# EAGLE library part BOB-00544 (library LearningByMaking)
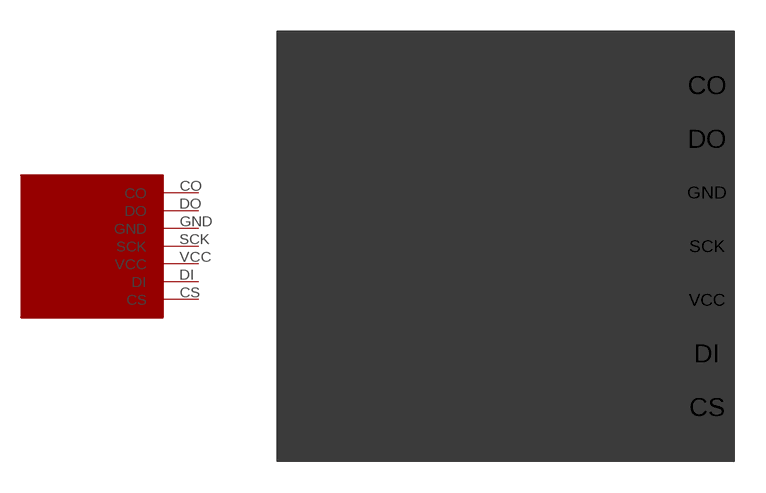
[diagram p6: symbol with the pads of BOB-00544; footprint BOB-00544]

Designator prefix -

## BOB-00544  [BOB-00544]
CO  CO
CS  CS
DI  DI
DO  DO
GND  GND
SCK  SCK
VCC  VCC

## Footprint BOB-00544 (pad centres in mm)
drill 0.8 square: CO 20.32,-2.54; CS 20.32,-17.78; DI 20.32,-15.24; DO 20.32,-5.08; GND 20.32,-7.62; SCK 20.32,-10.16; VCC 20.32,-12.7